# EAGLE library part LD39050PUR (library SamacSys_Parts)
LDO Regulator 500mA 0.8V Low IQ DFN6EP STMicroelectronics LD39050PUR, Single Linear Voltage Regulator, 500mA Adjustable 0.8 V, 824 (Adjustable)mV, 6-Pin DFN Source: Datasheet
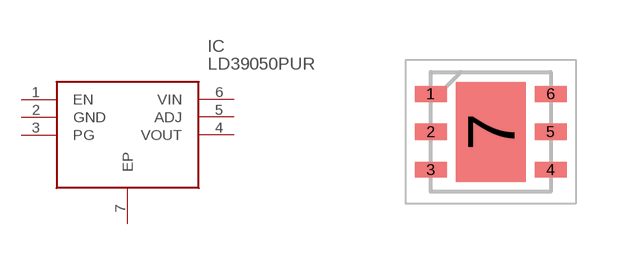
[diagram p3: symbol with the pads of SON95P300X300X100-7N; footprint SON95P300X300X100-7N]

Designator prefix IC

## LD39050PUR (Description: LDO Regulator 500mA 0.8V Low IQ DFN6EP STMicroelectronics LD39050PUR, Single Linear Voltage Regulator, 500mA Adjustable 0.8 V, 824 (Adjustable)mV, 6-Pin DFN; Height: 1mm; Manufacturer_Name: STMicroelectronics; Manufacturer_Part_Number: LD39050PUR; Mouser_Part_Number: 511-LD39050PUR; Mouser_Price-Stock: https://www.mouser.co.uk/ProductDetail/STMicroelectronics/LD39050PUR?qs=5HwTSiuA5HAnFcqq0S%2F8eQ%3D%3D)  [SON95P300X300X100-7N]
1  EN
2  GND
3  PG
4  VOUT
5  ADJ
6  VIN
7  EP

## Footprint SON95P300X300X100-7N (pad centres in mm)
DFN6 (3x3)
smd 0.8 x 0.4: 1 -1.5,0.95; 2 -1.5,0; 3 -1.5,-0.95; 4 1.5,-0.95; 5 1.5,0; 6 1.5,0.95
smd 1.75 x 2.5: 7 0,0